# Altium footprint library DIOM3616X98N.PcbLib: 1 footprints
Each footprint in its own frame and in the unit in brackets; x right, y up, seen from the top. Pads: shape width x height; smd on the part's side, far side on the other; paste and mask are expansions set on the pad; w line width, h text height; cw(c..) or ccw(c..) is an arc to the next point about the centre after c.
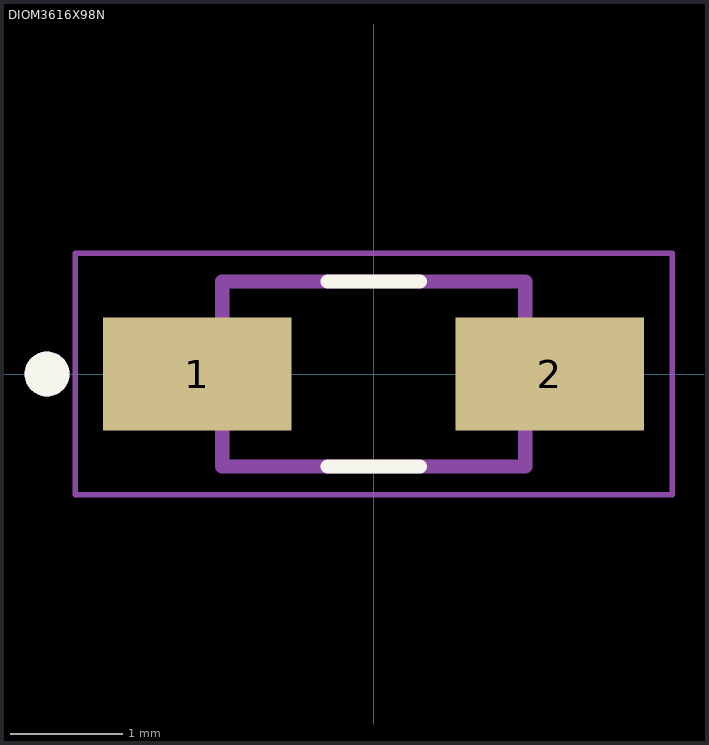
[diagram p0: the footprint, top view; thin cyan lines are the x and y axes]

## DIOM3616X98N [mm]
pads (2):
  rect 1.68x1.01 smd: 1(-1.57,0) 2(1.57,0)
Top Overlay:
  circle w0.2: c-2.91,0 r0.1
  lines w0.127: -0.41,-0.825 0.41,-0.825 ; -0.41,0.825 0.41,0.825
Mechanical 13:
  circle w0.2: c-2.91,0 r0.1
  lines w0.127: -1.35,-0.825 1.35,-0.825 1.35,0.825 -1.35,0.825 -1.35,-0.825
Mechanical 15:
  lines w0.05: -2.66,-1.075 2.66,-1.075 2.66,1.075 -2.66,1.075 -2.66,-1.075
3D body "step_temp.STEP": height 1.3, standoff 0, extent -1.958,-0.881 1.742,0.919